# Altium footprint library EM411-202401-RMC001-000-20240213-T10.PcbLib: 39 footprints (part 1 of 3)
Each footprint in its own frame and in the unit in brackets; x right, y up, seen from the top. Pads: shape width x height; smd on the part's side, far side on the other; paste and mask are expansions set on the pad; w line width, h text height; cw(c..) or ccw(c..) is an arc to the next point about the centre after c.
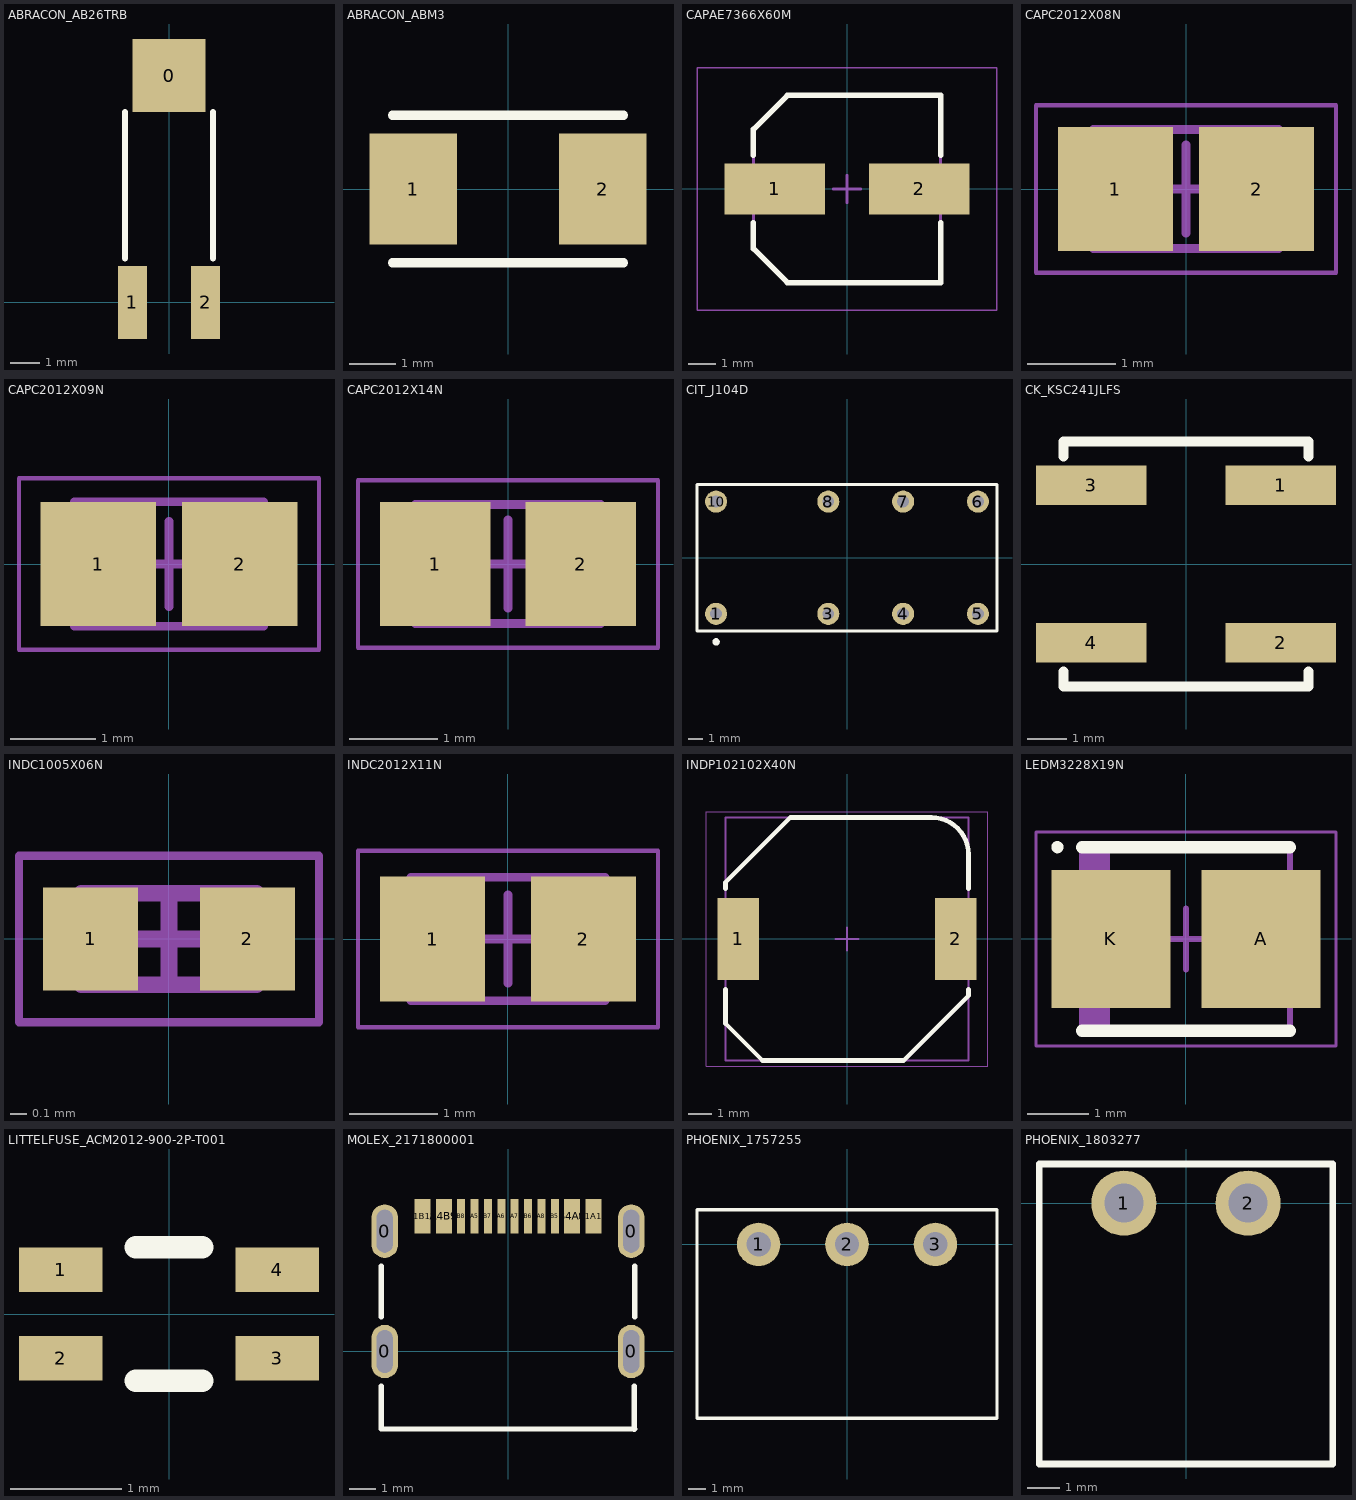
[diagram p0: the footprints below, top view; thin cyan lines are the x and y axes]

## ABRACON_AB26TRB [mm] "Low Frequency Reflowable Cylindrical Watch Crystal"
height 2.5
pads (3):
  rect 2.5x2.5 smd: 0(0,7.75)
  rect 1x2.5 smd: 1(-1.25,0) 2(1.25,0)
Top Overlay:
  lines w0.2: -1.5,1.5 -1.5,6.5 ; 1.5,1.5 1.5,6.5
3D body "AB26TRB.STEP": height 2.25, standoff 0.03, extent -1.42,-1 1.42,8

## ABRACON_ABM3 [mm] "Ceramic SMD Crystal"
height 1.3
pads (2):
  rect 1.9x2.4 smd: 1(-2.05,0) 2(2.05,0)
Top Overlay:
  lines w0.2: -2.5,-1.6 2.5,-1.6 ; -2.5,1.6 2.5,1.6
3D body "ABM3.STEP": height 1.35, standoff 0.05, extent -2.5,-1.6 2.5,1.6

## CAPAE7366X60M [mm] "Aluminum Electrolytic Capacitor, Body 6.60x6.60x6.00mm, IPC Low Density"
height 6
pads (2):
  rect 3.65x1.85 smd: 1(-2.625,0) 2(2.625,0)
Top Overlay:
  lines w0.2: -3.4,-1.225 -3.4,-2.163 -2.163,-3.4 3.4,-3.4 3.4,-1.225 ; -3.4,1.225 -3.4,2.163 -2.163,3.4 3.4,3.4 3.4,1.225
Mechanical 13:
  lines w0.1: -3.4,-2.163 -3.4,2.163 -2.163,3.4 3.4,3.4 3.4,-3.4 -2.163,-3.4 -3.4,-2.163
Mechanical 15:
  lines w0.05: -5.45,-4.4 5.45,-4.4 5.45,4.4 -5.45,4.4 -5.45,-4.4
  lines w0.1: -0.5,0 0.5,0 ; 0,-0.5 0,0.5
3D body: height 6, standoff 0, extent -3.4,-3.4 3.4,3.4
3D body: height 2, standoff 0, extent -3.4,-3.4 3.4,3.4

## CAPC2012X08N [mm] "Chip Capacitor, 2-Leads, Body 2.00x1.25mm, IPC Medium Density"
height 0.75
pads (2):
  rect 1.3x1.4 smd: 1(-0.8,0) 2(0.8,0)
Top Courtyard:
  lines w0.05: -1.7,-0.95 1.7,-0.95 1.7,0.95 -1.7,0.95 -1.7,-0.95
  lines w0.1: -0.5,0 0.5,0 ; 0,-0.5 0,0.5
Mechanical 13:
  lines w0.1: -1.05,-0.675 1.05,-0.675 1.05,0.675 -1.05,0.675 -1.05,-0.675
3D body "CAPC2012X08N.step": height 0.75, standoff 0, extent -1.05,-0.675 1.05,0.675

## CAPC2012X09N [mm] "Chip Capacitor, 2-Leads, Body 2.00x1.25mm, IPC Medium Density"
height 0.94
pads (2):
  rect 1.35x1.45 smd: 1(-0.825,0) 2(0.825,0)
Mechanical 13:
  lines w0.1: -1.105,-0.725 -1.105,0.725 1.105,0.725 1.105,-0.725 -1.105,-0.725
Mechanical 15:
  lines w0.05: -1.75,-1 -1.75,1 1.75,1 1.75,-1 -1.75,-1
  lines w0.1: -0.5,0 0.5,0 ; 0,-0.5 0,0.5
3D body "CAPC2012X09N.step": height 0.94, standoff 0, extent -1.105,-0.725 1.105,0.725

## CAPC2012X14N [mm] "Chip Capacitor, 2-Leads, Body 2.00x1.25mm, IPC Medium Density"
height 1.35
pads (2):
  rect 1.25x1.4 smd: 1(-0.825,0) 2(0.825,0)
Top Courtyard:
  lines w0.05: -1.7,-0.95 1.7,-0.95 1.7,0.95 -1.7,0.95 -1.7,-0.95
  lines w0.1: -0.5,0 0.5,0 ; 0,-0.5 0,0.5
Mechanical 13:
  lines w0.1: -1.05,-0.675 1.05,-0.675 1.05,0.675 -1.05,0.675 -1.05,-0.675
3D body "CAPC2012X14N.step": height 1.35, standoff 0, extent -1.05,-0.675 1.05,0.675

## CIT_J104D [mm] "Dual Form C Signal Relay"
height 11.1
pads (8):
  round 1.5 hole 0.8: 1(-8.89,-3.81) 3(-1.27,-3.81) 4(3.81,-3.81) 5(8.89,-3.81) 6(8.89,3.81) 7(3.81,3.81) 8(-1.27,3.81) 10(-8.89,3.81)
Top Overlay:
  circle w0.25: c-8.89,-5.715 r0.125
  lines w0.2: -10.185,-4.985 -10.185,4.985 10.185,4.985 10.185,-4.985 -10.185,-4.985
3D body "c-2-1393793-1-c1-3d.stp": height 10.5, standoff -3.5, extent -10.1,-5 10.1,5

## CK_KSC241JLFS [mm]
pads (4):
  rect 2.8x1 smd: 1(2.4,2) 2(2.4,-2) 3(-2.4,2) 4(-2.4,-2)
Top Overlay:
  lines w0.254: -3.1,-2.725 -3.1,-3.1 3.1,-3.1 3.1,-2.725 ; -3.1,2.725 -3.1,3.1 3.1,3.1 3.1,2.725
3D body "KSC241JLFS.stp": height 3.5, standoff 0, extent -3.4,-3.15 3.4,3.15

## INDC1005X06N [mm] "Chip Inductor, 2-Leads, Body 1.00x0.50mm, IPC Medium Density"
height 0.55
pads (2):
  rect 0.57x0.62 smd: 1(-0.47,0) 2(0.47,0)
Top Courtyard:
  lines w0.05: -0.9,-0.5 -0.9,0.5 0.9,0.5 0.9,-0.5 -0.9,-0.5
  lines w0.1: -0.275,0 0.275,0 ; 0,-0.275 0,0.275
Mechanical 13:
  lines w0.1: -0.525,-0.275 -0.525,0.275 0.525,0.275 0.525,-0.275 -0.525,-0.275
3D body "INDC1005X06N.step": height 0.55, standoff 0, extent -0.525,-0.275 0.525,0.275

## INDC2012X11N [mm] "Chip Inductor, 2-Leads, Body 2.00x1.20mm, IPC Medium Density"
height 1.1
pads (2):
  rect 1.19x1.42 smd: 1(-0.855,0) 2(0.855,0)
Mechanical 13:
  lines w0.1: -1.1,-0.7 1.1,-0.7 1.1,0.7 -1.1,0.7 -1.1,-0.7
Mechanical 15:
  lines w0.05: -1.7,-1 1.7,-1 1.7,1 -1.7,1 -1.7,-1
  lines w0.1: -0.5,0 0.5,0 ; 0,-0.5 0,0.5
3D body "INDC2012X11N.step": height 1.1, standoff 0, extent -1.1,-0.7 1.1,0.7

## INDP102102X40N [mm] "Precision Wire Wound Inductor, 2-Leads, Body 10.20x10.15mm, IPC Medium Density"
height 4
pads (2):
  rect 1.78x3.56 smd: 1(-4.7,0) 2(4.7,0)
Top Overlay:
  lines w0.2: -5.25,-2.18 -5.25,-3.65 -3.65,-5.25 2.45,-5.25 5.25,-2.45 5.25,-2.18 ; -5.25,2.18 -5.25,2.45 -2.45,5.25 3.65,5.25 cw(c3.65,3.65) 5.25,3.65 5.25,2.18
Top Courtyard:
  lines w0.05: -6.075,-5.5 6.075,-5.5 6.075,5.5 -6.075,5.5 -6.075,-5.5
  lines w0.1: -0.5,0 0.5,0 ; 0,-0.5 0,0.5
Mechanical 13:
  lines w0.1: -5.25,-5.25 5.25,-5.25 5.25,5.25 -5.25,5.25 -5.25,-5.25
3D body "Coilcraft-MSS1038.STEP": height 3.6, standoff -0.4, extent -5.15,-5.1 5.15,5.1

## LEDM3228X19N [mm] "Molded LED, 2-Leads, Body 3.20x2.80mm, IPC Medium Density"
height 1.91
pads (2):
  rect 1.95x2.25 smd: A(1.225,0) K(-1.225,0)
Top Overlay:
  circle w0.1: c-2.1,1.5 r0.05
  lines w0.2: -1.7,-1.5 1.7,-1.5 ; -1.7,1.5 1.7,1.5
Mechanical 13:
  rectangle: -1.7,-1.5 -1.243,1.5
  lines w0.1: -1.7,-1.5 -1.7,1.5 1.7,1.5 1.7,-1.5 -1.7,-1.5
Mechanical 15:
  lines w0.05: -2.45,-1.75 -2.45,1.75 2.45,1.75 2.45,-1.75 -2.45,-1.75
  lines w0.1: -0.5,0 0.5,0 ; 0,-0.5 0,0.5
3D body "597-3008-207F.stp": height 1.86, standoff 0, extent -1.75,-1.4 1.75,1.4

## LITTELFUSE_ACM2012-900-2P-T001 [mm] "Common Mode Choke"
height 1.3
pads (4):
  rect 0.75x0.4 smd: 1(-0.975,0.4) 2(-0.975,-0.4) 3(0.975,-0.4) 4(0.975,0.4)
Top Overlay:
  lines w0.2: -0.3,-0.6 0.3,-0.6 ; -0.3,0.6 0.3,0.6
3D body "acm2012-t001.step": height 1.21, standoff 0.01, extent -0.998,-0.6 0.998,0.6

## MOLEX_2171800001 [mm]
height 7.4
pads (16):
  oval 1x2 hole 0.6 slot 1.6 at 90 deg: 0(-4.61,0) 0(-4.61,4.5) 0(4.61,0) 0(4.61,4.5)
  rect 0.6x1.3 smd: A1B12(-3.2,5.06) A4B9(-2.4,5.06) B1A12(3.2,5.06) B4A9(2.4,5.06)
  rect 0.3x1.3 smd: A5(-1.25,5.06) A6(-0.25,5.06) A7(0.25,5.06) A8(1.25,5.06) B5(1.75,5.06) B6(0.75,5.06) B7(-0.75,5.06) B8(-1.75,5.06)
Top Overlay:
  lines w0.2: -4.735,-1.3 -4.735,-2.9 4.735,-2.9 ; -4.735,1.3 -4.735,3.2 ; 4.723,-2.905 4.723,-1.305 ; 4.735,1.3 4.735,3.2
3D body "2171800001.stp": height 7.79, standoff -1.29, extent -4.73,-2.902 4.74,5.498

## PHOENIX_1757255 [mm] "PCB header - MSTBA 2,5/ 3-G-5,08"
height 8.57
pads (3):
  round 2.5 hole 1.4: 1(-5.08,0) 2(0,0) 3(5.08,0)
Top Overlay:
  lines w0.2: -8.62,-10 -8.62,2 8.62,2 8.62,-10 -8.62,-10
3D body "1757255.stp": height 8.6, standoff -3.5, extent -8.62,-10.002 8.62,2

## PHOENIX_1803277 [mm] "PCB header - MC 1,5/ 2-G-3,81"
height 7.25
pads (2):
  round 2 hole 1.2: 1(-1.905,0) 2(1.905,0)
Top Overlay:
  lines w0.2: -4.505,-8 4.505,-8 4.505,1.2 -4.505,1.2 -4.505,-8
3D body "pxc_1803277_05_MC-1-5-2-G-3-81_3D.stp": height 7.25, standoff -3.4, extent -4.505,-8 4.505,1.3